# Altium schematic symbol library 2020-02-10_00-18-24.SchLib: 2 symbols
Pins are listed as number, name and electrical type; pins without a type are passive.

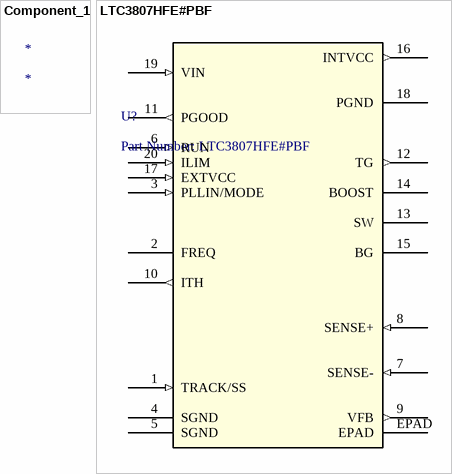
[diagram p0: symbols Component_1 to LTC3807HFE#PBF]

## Component_1
designator *

## LTC3807HFE#PBF
designator U?, comment Part Number: LTC3807HFE#PBF
No Description Available; Vendor: Linear Technology; Built_By: EMA_UL_Team; Manufacturer_Part_Number: LTC3807HFE#PBF; Copyright: Copyright (C) 2018 Accelerated Designs. All rights reserved; RefDes: RefDes; Type: DEV; Value: Value
footprint TSSOP-20_FE/CB
pins: 1 TRACK/SS (in), 2 FREQ, 3 PLLIN/MODE (in), 4 SGND (power), 5 SGND (power), 6 RUN (in), 7 SENSE- (in), 8 SENSE+ (in), 9 VFB (out), 10 ITH (out), 11 PGOOD (out), 12 TG (out), 13 SW, 14 BOOST, 15 BG, 16 INTVCC (out), 17 EXTVCC (in), 18 PGND (power), 19 VIN (in), 20 ILIM (in), EPAD